# Altium footprint library MacroPlay.PcbLib: 42 footprints (part 1 of 3)
Each footprint in its own frame and in the unit in brackets; x right, y up, seen from the top. Pads: shape width x height; smd on the part's side, far side on the other; paste and mask are expansions set on the pad; w line width, h text height; cw(c..) or ccw(c..) is an arc to the next point about the centre after c.
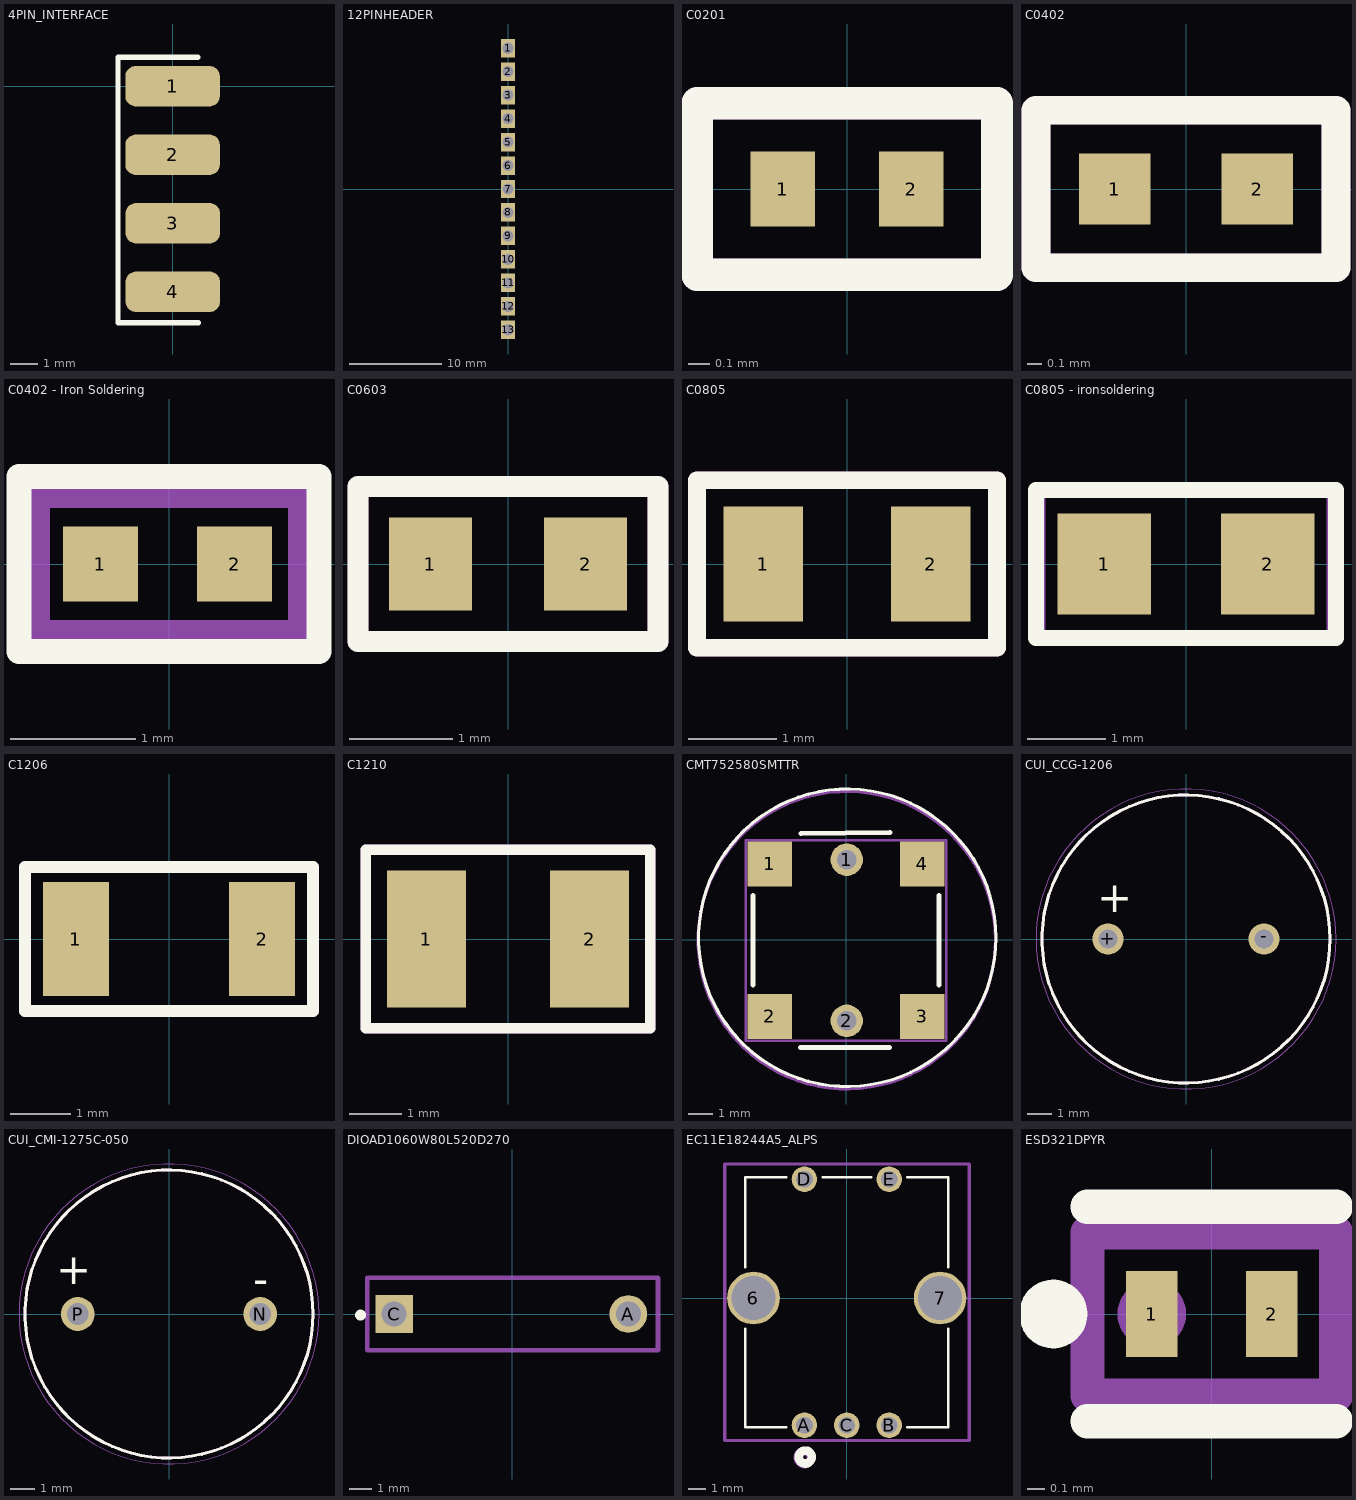
[diagram p0: the footprints below, top view; thin cyan lines are the x and y axes]

## 4PIN_INTERFACE [mm]
pads (4):
  rrect50% 3.5x1.5 smd: 1(0,0) 2(0,-2.54) 3(0.007,-5.08) 4(0.007,-7.62)
Top Overlay:
  lines w0.2: 0.925,1.075 -2.025,1.075 -2.025,-8.775 0.95,-8.775

## 12PINHEADER [mm]
pads (13):
  rect 1.508x2 / inner round 1.508 / far side rect 1.508x1.508 hole 1.2 mask+0.1: 1(0,15.24) 2(0,12.7) 3(0,10.16) 4(0,7.62) 5(0,5.08) 6(0,2.54) 7(0,0) 8(0,-2.54) 9(0,-5.08) 10(0,-7.62) 11(0,-10.16) 12(0,-12.7) 13(0,-15.24)

## C0201 [mm]
pads (2):
  rect 0.3x0.35 smd mask+0.06: 1(-0.3,0) 2(0.3,0)
Top Overlay:
  lines w0.15: -0.7,-0.4 -0.7,0.4 0.7,0.4 0.7,-0.4 -0.7,-0.4
Mechanical 29:
  lines w0.15: -0.7,-0.4 0.7,-0.4 0.7,0.4 -0.7,0.4 -0.7,-0.4
  text "'.Designator'" at -0.4,-0.1 h0.2
3D body "C0201.step": height 0.3, standoff 0, extent -0.3,-0.15 0.3,0.15

## C0402 [mm]
pads (2):
  rect 0.5x0.5 smd: 1(-0.5,0) 2(0.5,0)
Top Overlay:
  lines w0.2: -1.05,-0.55 -1.05,0.55 1.05,0.55 1.05,-0.55 -1.05,-0.55
Mechanical 29:
  lines w0.2: -1.05,-0.55 1.05,-0.55 1.05,0.55 -1.05,0.55 -1.05,-0.55
  text "'.Designator'" at -0.717,-0.25 h0.5
3D body "C0402.step": height 0.51, standoff 0.01, extent -0.5,-0.25 0.5,0.25

## C0402 - Iron Soldering [mm] "C0402 but easier to solder with iron solder instead of an furnace or heat bed"
pads (2):
  rect 0.6x0.6 smd mask+0: 1(-0.55,0) 2(0.525,0)
Top Overlay:
  lines w0.2: -1.2,-0.7 1.2,-0.7 1.2,0.7 -1.2,0.7 -1.2,-0.7
Mechanical 29:
  lines w0.2: -1.05,-0.55 -1.05,0.55 1.05,0.55 1.05,-0.55 -1.05,-0.55
  text "'.Designator'" at -0.717,-0.25 h0.5
3D body "C0402.step": height 0.51, standoff 0.01, extent -0.5,-0.25 0.5,0.25

## C0603 [mm]
pads (2):
  rect 0.8x0.9 smd: 1(-0.75,0) 2(0.75,0)
Top Overlay:
  lines w0.2: -1.45,-0.75 -1.45,0.75 1.45,0.75 1.45,-0.75 -1.45,-0.75
Mechanical 29:
  lines w0.2: -1.45,-0.75 -1.45,0.75 1.45,0.75 1.45,-0.75 -1.45,-0.75
  text "'.Designator'" at -0.7,-0.3 h0.6
3D body "C0603.step": height 0.81, standoff 0.01, extent -0.8,-0.43 0.8,0.43

## C0805 [mm]
pads (2):
  rect 0.9x1.3 smd: 1(-0.95,0) 2(0.95,0)
Top Overlay:
  lines w0.2: -1.7,-0.95 1.7,-0.95 1.7,0.95 -1.7,0.95 -1.7,-0.95
Mechanical 29:
  lines w0.2: -1.7,-0.95 -1.7,0.95 1.7,0.95 1.7,-0.95 -1.7,-0.95
  text "'.Designator'" at -1.2,-0.4 h0.85
3D body "C0805.step": height 1, standoff 0, extent -1,-0.625 1,0.625

## C0805 - ironsoldering [mm]
pads (2):
  rect 1.2x1.3 smd: 1(-1.05,0) 2(1.05,0)
Top Overlay:
  lines w0.2: -1.925,-0.95 -1.925,0.95 1.925,0.95 1.925,-0.95 -1.925,-0.95
Mechanical 29:
  lines w0.2: -1.9,-0.95 1.9,-0.95 1.9,0.95 -1.9,0.95 -1.9,-0.95
  text "'.Designator'" at -1.2,-0.4 h0.85
3D body "C0805.step": height 1, standoff 0, extent -1,-0.625 1,0.625

## C1206 [mm] "Chip Capacitor, 2-Leads, Body 3.20x1.60mm, IPC Medium Density"
height 0.95
pads (2):
  rect 1.1x1.9 smd: 1(-1.55,0) 2(1.55,0)
Top Overlay:
  lines w0.2: -2.4,-1.2 2.4,-1.2 2.4,1.2 -2.4,1.2 -2.4,-1.2
Mechanical 29:
  lines w0.2: -2.4,-1.2 -2.4,1.2 2.4,1.2 2.4,-1.2 -2.4,-1.2
  text "'.Designator'" at -1.4,-0.5 h1
3D body "C1206.step": height 0.95, standoff 0, extent -1.7,-0.9 1.7,0.9

## C1210 [mm]
pads (2):
  rect 1.5x2.6 smd: 1(-1.55,0) 2(1.55,0)
Top Overlay:
  lines w0.2: -2.7,-1.7 -2.7,1.7 2.7,1.7 2.7,-1.7 -2.7,-1.7
Mechanical 29:
  lines w0.2: -2.7,-1.7 2.7,-1.7 2.7,1.7 -2.7,1.7 -2.7,-1.7
  text "'.Designator'" at -1.4,-0.6 h1.2
3D body "C1210.step": height 1.8, standoff 0, extent -1.6,-1.25 1.6,1.25

## CMT752580SMTTR [mm]
pads (6):
  rect 1.8x1.8 smd mask+0.08: 1(-3.075,3.05) 2(-3.075,-3.1) 3(3.075,-3.1) 4(3.075,3.05)
  round 1.308 hole 0.8 mask+0.102: 1(0.03,3.224) 2(0.03,-3.276)
Top Overlay:
  circle w0.127: c0.05,0.075 r6
  lines w0.2: -3.75,-1.825 -3.75,1.785 ; -1.843,-4.35 1.75,-4.35 ; -1.818,4.275 1.775,4.325 ; 3.75,-1.825 3.75,1.785
Mechanical 29:
  circle w0.2: c-3.1,2.975 r0.1
  circle w0.127: c0.03,-0.026 r6
  lines w0.1: -4.05,-4.075 4.05,-4.075 4.05,4 -4.05,4 -4.05,-4.075
  text "'.Designator'" at -0.575,-0.025 h0.8
3D body "CMT-7525-80-SMT-TR.stp": height 2.5, standoff 0, extent -3.725,-3.8 3.775,3.7

## CUI_CCG-1206 [mm]
pads (2):
  round 1.308 hole 0.8 mask+0.102: +(-3.25,0) -(3.25,0)
Top Overlay:
  circle w0.127: c0,0 r6
  text "+" at -3.7,1.125 h1.27
Mechanical 15:
  circle w0.05: c0,0 r6.25
Mechanical 29:
  circle w0.127: c0,0 r6
  text "'.Designator'" at -0.547,-0.01 h0.8
3D body "step_temp.STEP": height 10, standoff -3.3, extent -5.992,-6 5.989,6

## CUI_CMI-1275C-050 [mm]
pads (2):
  round 1.408 hole 0.9: N(3.8,0) P(-3.8,0)
Top Overlay:
  circle w0.127: c0,0 r6
  text "-" at 3.5,0.826 h1.27
  text "+" at -4.7,1.25 h1.27
Mechanical 15:
  circle w0.05: c0,0 r6.25
Mechanical 29:
  circle w0.127: c0,0 r6
  text ".Designator" at -0.05,-0.125 h1.27
3D body "step_temp.STEP": height 7.6, standoff -5.4, extent -6.025,-5.9 5.975,6.1

## DIOAD1060W80L520D270 [mm]
pads (2):
  round 1.65 hole 1.1 mask+0.102: A(5.1,0)
  rect 1.65x1.65 / inner round 1.65 / far side rect 1.65x1.65 hole 1.1 mask+0.102: C(-5.175,0)
Top Overlay:
  circle w0.254: c-6.65,-0.05 r0.112
Mechanical 15:
  lines w0.05: -6.375,-1.6 -6.375,1.6 6.375,1.6 6.375,-1.6 -6.375,-1.6
Mechanical 29:
  circle w0.254: c-5.125,0.025 r0.112
  lines w0.2: -6.35,-1.6 6.4,-1.6 6.4,1.6 -6.35,1.6 -6.35,-1.6
  text ".Designator" at -0.1,-0.075 h1.27
3D body "1N4007--3DModel-STEP-1150514.STEP": height 2.89, standoff -2.07, extent -5.473,-1.375 5.473,1.225

## EC11E18244A5_ALPS [mil]
pads (7):
  round 122 hole 102 paste-99999 mask-61: 6(-216.54,0) 7(216.54,0)
  round 59 hole 39 paste-99999 mask+0: A(-98.43,-295.28) B(98.43,-295.28) C(0,-295.28) D(-98.43,275.59) E(98.43,275.59)
Top Overlay:
  circle w20: c-96.46,-369.09 r15
  lines w6: -235.5,-71.63 -235.5,-300.41 -140.71,-300.41 ; -235.5,71.63 -235.5,280.59 -140.73,280.59 ; -56.12,280.59 56.12,280.59 ; 140.71,-300.41 235.5,-300.41 235.5,-71.63 ; 140.73,280.59 235.5,280.59 235.5,71.63
Mechanical 29:
  circle w20: c-98.43,-370.28 r15
  lines w7.87: -283.46,-330.71 -283.46,311.02 284.45,311.02 284.45,-330.71 -283.46,-330.71
  text ".Designator" at -82.68,-7.87 h50
3D body "ec11e18244a5.stp": height 980.31, standoff -122.05, extent -258.73,-304.13 256.76,284.45
3D body "knob-3.step": height 1043.31, standoff 433.07, extent -318.9,-329.72 311.02,300.2

## ESD321DPYR [mm]
pads (2):
  rect 0.3x0.5 smd mask+0.051: 1(-0.35,0) 2(0.35,0)
Top Overlay:
  circle w0.2: c-0.925,0 r0.1
  lines w0.2: -0.725,-0.625 0.725,-0.625 ; -0.725,0.625 0.725,0.625
Mechanical 29:
  circle w0.2: c-0.35,0 r0.1
  lines w0.2: -0.725,-0.475 -0.725,0.475 0.725,0.475 0.725,-0.475 -0.725,-0.475
  text "'.Designator'" at -0.05,-0.125 h0.3
3D body "step_temp.STEP": height 0.45, standoff 0, extent -0.5,-0.3 0.5,0.3